# Altium schematic symbol library MOC3023.SchLib: 1 symbol
Pins are listed as number, name and electrical type; pins without a type are passive.

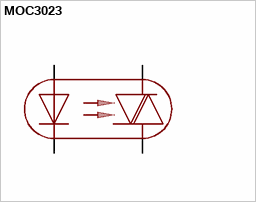
[diagram p0: symbol MOC3023]

## MOC3023
designator U?
footprint DIP6
pins: 1, 2, 4, 6